# EAGLE library part WISP5.1-BREAKOUT (library edb1.1-breakout)
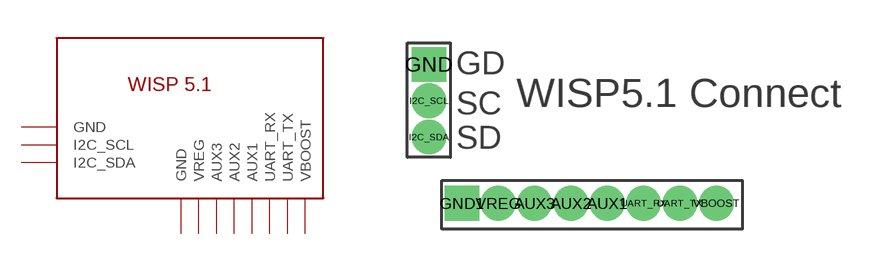
[diagram p1: symbol with the pads of WISP5.1_FOOTPRINT; footprint WISP5.1_FOOTPRINT]

Designator prefix -

## WISP5.1-BREAKOUT  [WISP5.1_FOOTPRINT]
AUX1  AUX1
AUX2  AUX2
AUX3  AUX3
GND  GND
GND1  GND
I2C_SCL  I2C_SCL
I2C_SDA  I2C_SDA
UART_RX  UART_RX
UART_TX  UART_TX
VBOOST  VBOOST
VREG  VREG

## Footprint WISP5.1_FOOTPRINT (pad centres in mm)
drill 0.7 pad 1.1: AUX1 5.08,0; AUX2 3.81,0; AUX3 2.54,0; I2C_SCL -1.152,3.581; I2C_SDA -1.152,2.311; UART_RX 6.35,0; UART_TX 7.62,0; VBOOST 8.89,0; VREG 1.27,0
drill 0.7 pad 1.1 square: GND -1.152,4.851; GND1 0,0